# Altium schematic symbol library D 电阻.Schlib: 10 symbols
Pins are listed as number, name and electrical type; pins without a type are passive.

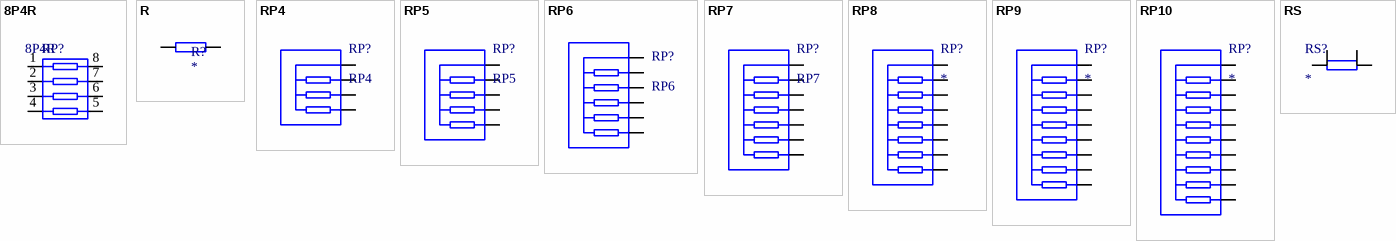
[diagram p0: symbols 8P4R to RS]

## 8P4R
designator RP?
8针4R排阻
pins: 1, 2, 3, 4, 5, 6, 7, 8
2 alternate drawings of the same symbol

## R
designator R?
电阻
pins: 1, 2

## RP4
designator RP?
4针排阻
pins: 1, 2, 3, 4

## RP5
designator RP?
5针排阻
pins: 1, 2, 3, 4, 5

## RP6
designator RP?
6针排阻
pins: 1, 2, 3, 4, 5, 6

## RP7
designator RP?
7针排阻
pins: 1, 2, 3, 4, 5, 6, 7

## RP8
designator RP?
8针排阻
pins: 1, 2, 3, 4, 5, 6, 7, 8

## RP9
designator RP?
9针排阻
pins: 1, 2, 3, 4, 5, 6, 7, 8, 9

## RP10
designator RP?
10针排阻
pins: 1, 2, 3, 4, 5, 6, 7, 8, 9, 10

## RS
designator RS?
电流采样电阻
pins: 1, 1, 2, 2